# EAGLE library part TE-1734028 (library Connectors)
USB connector plug TE Connectivity
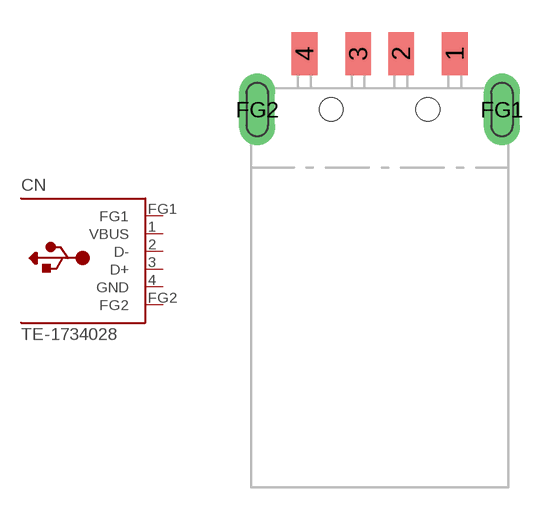
[diagram p4: symbol with the pads of TE-1734028; footprint TE-1734028]

Designator prefix CN

## TE-1734028  [TE-1734028]
1  VBUS  pas
2  D-
3  D+
4  GND  pas
FG1  FG1  pas
FG2  FG2  pas

## Footprint TE-1734028 (pad centres in mm)
TE Connectivity USB connector plug
smd 1.2 x 2: 1 3.5,2.6; 2 1,2.6; 3 -1,2.6; 4 -3.5,2.6
drill 1 pad 1.676 long: FG1 5.7,0; FG2 -5.7,0
hole 1.1 at -2.25,0
hole 1.1 at 2.25,0